# Altium schematic symbol library TH-pad.SchLib: 1 symbol
Pins are listed as number, name and electrical type; pins without a type are passive.

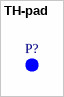
[diagram p0: symbol TH-pad]

## TH-pad
designator P?  (value not drawn)
Value: *
pins: 1